# EAGLE library part LTC4002ES8-8.4 (library ICs)
Standalone Li-Ion Switch Mode Battery Charger IC BATT CHG LI-ION 2CELL 8SOIC
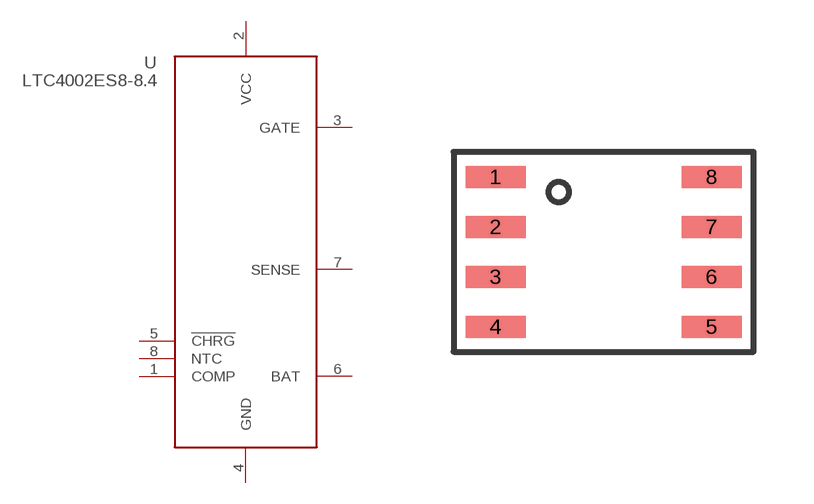
[diagram p325: symbol with the pads of SO8; footprint SO8]

Designator prefix U

## LTC4002ES8-8.4 (DIGIKEY: LTC4002ES8-8.4#TRPBFCT-ND; HEIGHT: 2; PRICE_PER: 4.84; VALUE: LTC4002ES8)  [SO8]
1  COMP
2  VCC
3  GATE
4  GND
5  !CHRG
6  BAT
7  SENSE
8  NTC

## Footprint SO8 (pad centres in mm)
smd 1.5 x 0.55: 1 -2.7,1.875; 2 -2.7,0.625; 3 -2.7,-0.625; 4 -2.7,-1.875; 5 2.7,-1.875; 6 2.7,-0.625; 7 2.7,0.625; 8 2.7,1.875